# Altium footprint library pcie.PcbLib: 1 footprints
Each footprint in its own frame and in the unit in brackets; x right, y up, seen from the top. Pads: shape width x height; smd on the part's side, far side on the other; paste and mask are expansions set on the pad; w line width, h text height; cw(c..) or ccw(c..) is an arc to the next point about the centre after c.
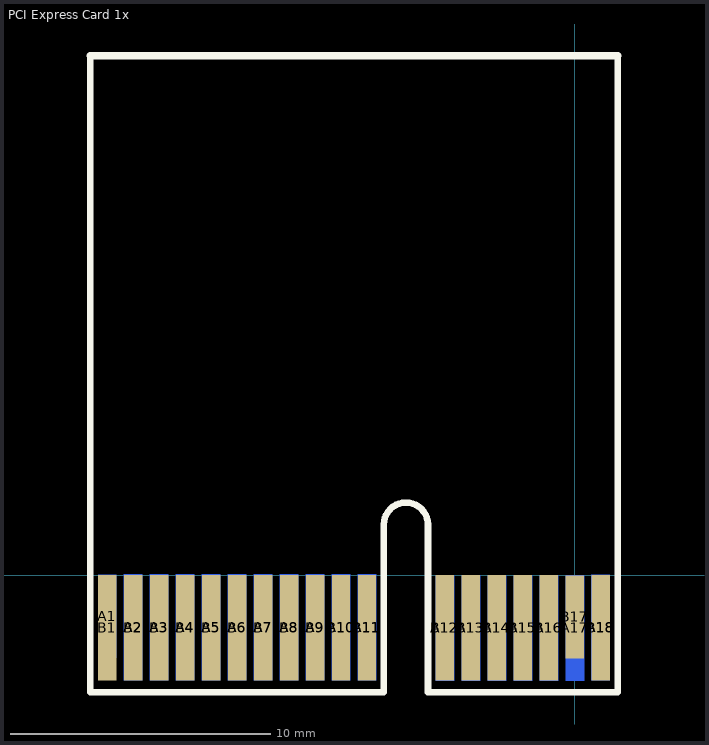
[diagram p0: the footprint, top view; thin cyan lines are the x and y axes]

## PCI Express Card 1x [mm] "Single Lane PCI Express Card Edge Connector"
pads (36):
  rect 0.711x3.2 smd far side: A1(-18,-1.575)
  rect 0.711x4.064 smd far side: A2(-17,-2) A3(-16,-2) A4(-15,-2) A5(-14,-2) A6(-13,-2) A7(-12,-2) A8(-11,-2) A9(-10,-2) A10(-9,-2) A11(-8,-2) A12(-5,-2.025) A13(-4,-2.025) A14(-3,-2.025) A15(-2,-2.025) A16(-1,-2.025) A17(0,-2.025) A18(0.991,-2.007)
  rect 0.711x4.064 smd: B1(-18,-2.025) B2(-17,-2.025) B3(-16,-2.025) B4(-15,-2.025) B5(-14,-2.025) B6(-13,-2.025) B7(-12,-2.025) B8(-11,-2.025) B9(-10,-2.025) B10(-9,-2.025) B11(-8,-2.025) B12(-5,-2.025) B13(-4,-2.025) B14(-3,-2.025) B15(-2,-2.025) B16(-1,-2.025) B18(1,-2.025)
  rect 0.711x3.2 smd: B17(0,-1.6)
Top Overlay:
  lines w0.254: -18.65,20 -18.65,-4.5 -7.35,-4.5 -7.35,1.95 cw(c-6.5,1.95) -6.5,2.8 cw(c-6.5,1.95) -5.65,1.95 -5.65,-4.5 -1.4,-4.5 1.65,-4.5 1.65,20
  lines w0.3: -18.65,20 1.65,20